# Altium integrated library Linear Technology Power Management uModule Regulators.IntLib: 166 symbols (part 31 of 67)
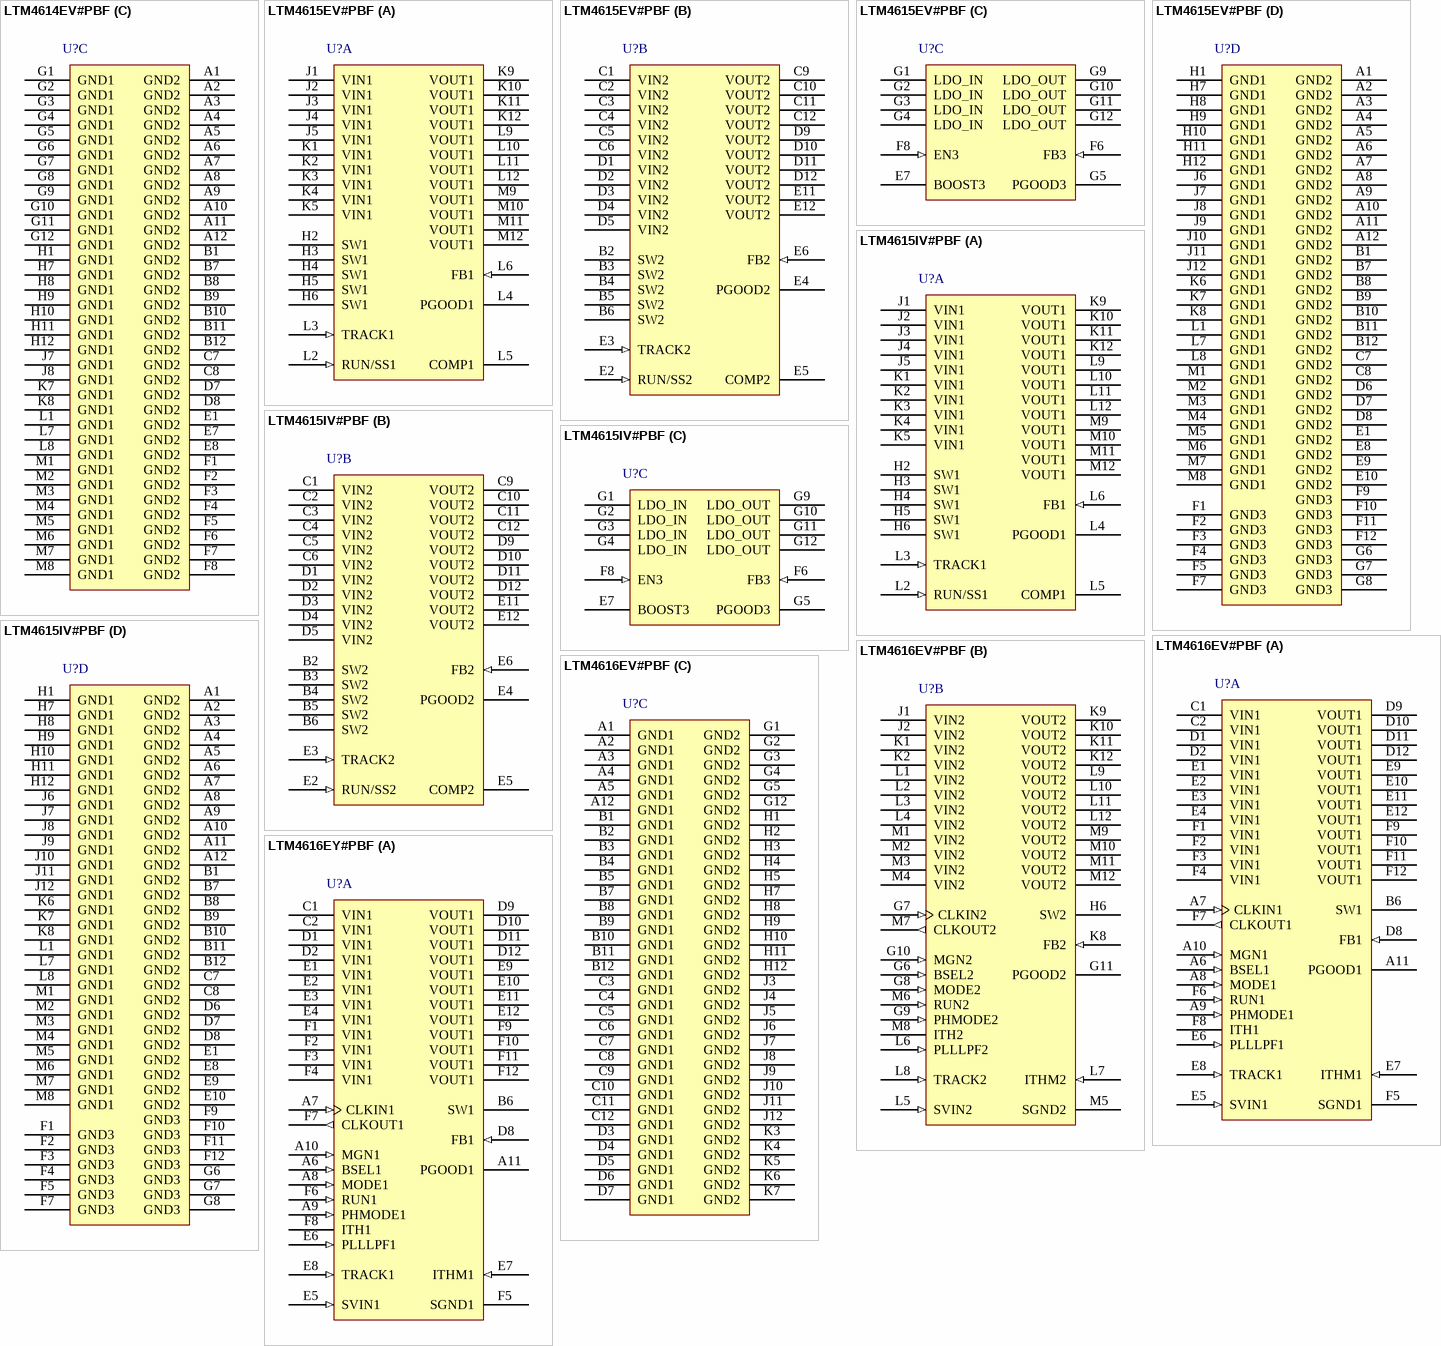
[diagram p57: symbols LTM4614EV#PBF to LTM4616EY#PBF]

## LTM4615IV#PBF
designator U?
Triple Output, Low Voltage DC/DC uModule Regulator, 144-pin LGA, -40 to 125 degC, Pb-Free, Tray; Manufacturer: Linear Technology; PartNumber: LTM4615IV#PBF; Extended Temp: E,I; Frequency(kHz): 1250; Ishutdown(uA): 7; Isupply(mA): 1.48; Number of Outputs: 3; Output Current(A): 4; Switch Current(A): 6; Synchronous: yes; Topology: Buck, LDO; Vin Max(V): 5.5; Vin Min(V): 2.375; Vout Max(V): 5; Vout Min(V): 0.8; DatasheetVersion: Rev. A; PackageVersion: Rev. C, 01/2013; PackageReference: LGA-144; PackageDescription: 144-Pin LGA, Body 15 x 15 mm, Pitch 1.27 mm; Supplier 1: Digi-Key; Supplier Part Number 1: LTM4615IV#PBF-ND; Supplier 2: Farnell; Supplier Part Number 2: 1865712; Supplier 3: Newark; Supplier Part Number 3: 68R7657; Packing: Tray; RoHS: TRUE; Tracking: yes; Mounting Technology: Surface Mount; Code_JEDEC: MS-028; ComponentLink1Description: Manufacturer URL; ComponentLink1URL: http://www.linear.com/; ComponentLink2Description: Datasheet; ComponentLink2URL: http://cds.linear.com/docs/en/datasheet/4615fa.pdf; ComponentLink3Description: Package Specification; ComponentLink3URL: http://cds.linear.com/docs/en/packaging/05081816_C_lga144.pdf
footprint LT-LGA-144-05-08-1816_V (LGA, 144-Leads, Body 15x15mm, Pitch 1.27mm)
part A pins: H2 SW1 "The switching node of the circuit is used for testing purposes. This can be connected to copper on the board for improved thermal performance. SW1 and The switching node of the circuit is used for testing purposes. This can (See Datasheet)", H3 SW1 "The switching node of the circuit is used for testing purposes. This can be connected to copper on the board for improved thermal performance. SW1 and The switching node of the circuit is used for testing purposes. This can (See Datasheet)", H4 SW1 "The switching node of the circuit is used for testing purposes. This can be connected to copper on the board for improved thermal performance. SW1 and The switching node of the circuit is used for testing purposes. This can (See Datasheet)", H5 SW1 "The switching node of the circuit is used for testing purposes. This can be connected to copper on the board for improved thermal performance. SW1 and The switching node of the circuit is used for testing purposes. This can (See Datasheet)", H6 SW1 "The switching node of the circuit is used for testing purposes. This can be connected to copper on the board for improved thermal performance. SW1 and The switching node of the circuit is used for testing purposes. This can (See Datasheet)", J1 VIN1 (power) "Power Input Pins. Apply input voltage between these pins and GND pins. Recommend placing input decoupling capacitance directly between VIN pins and GND pins.", J2 VIN1 (power) "Power Input Pins. Apply input voltage between these pins and GND pins. Recommend placing input decoupling capacitance directly between VIN pins and GND pins.", J3 VIN1 (power) "Power Input Pins. Apply input voltage between these pins and GND pins. Recommend placing input decoupling capacitance directly between VIN pins and GND pins.", J4 VIN1 (power) "Power Input Pins. Apply input voltage between these pins and GND pins. Recommend placing input decoupling capacitance directly between VIN pins and GND pins.", J5 VIN1 (power) "Power Input Pins. Apply input voltage between these pins and GND pins. Recommend placing input decoupling capacitance directly between VIN pins and GND pins.", K1 VIN1 (power) "Power Input Pins. Apply input voltage between these pins and GND pins. Recommend placing input decoupling capacitance directly between VIN pins and GND pins.", K2 VIN1 (power) "Power Input Pins. Apply input voltage between these pins and GND pins. Recommend placing input decoupling capacitance directly between VIN pins and GND pins.", K3 VIN1 (power) "Power Input Pins. Apply input voltage between these pins and GND pins. Recommend placing input decoupling capacitance directly between VIN pins and GND pins.", K4 VIN1 (power) "Power Input Pins. Apply input voltage between these pins and GND pins. Recommend placing input decoupling capacitance directly between VIN pins and GND pins.", K5 VIN1 (power) "Power Input Pins. Apply input voltage between these pins and GND pins. Recommend placing input decoupling capacitance directly between VIN pins and GND pins.", K9 VOUT1 (power) "Power Output Pins. Apply output load between these pins and GND pins. Recommend placing output decoupling capacitance directly between these pins and GND pins. Review Table 4.", K10 VOUT1 (power) "Power Output Pins. Apply output load between these pins and GND pins. Recommend placing output decoupling capacitance directly between these pins and GND pins. Review Table 4.", K11 VOUT1 (power) "Power Output Pins. Apply output load between these pins and GND pins. Recommend placing output decoupling capacitance directly between these pins and GND pins. Review Table 4.", K12 VOUT1 (power) "Power Output Pins. Apply output load between these pins and GND pins. Recommend placing output decoupling capacitance directly between these pins and GND pins. Review Table 4.", L2 RUN/SS1 (in), L3 TRACK1 (in) "Output Voltage Tracking Pins. When the module is configured as a master output, then a soft-start capacitor is placed on the RUN/SS pin to ground to control the master ramp rate, or an external ramp can be applied to the (See Datasheet)", L4 PGOOD1 (oc) "Output Voltage Power Good Indicator. Open-drain logic output that is pulled to ground when the output voltage is not within +/-7.5% of the regulation point.", L5 COMP1 "Current Control Threshold and Error Amplifier Compensation Point. The current comparator threshold increases with this control voltage. Two power modules can current share when this pin is connected in parallel with the (See Datasheet)", L6 FB1 (in) "The Negative Input of the Switching Regulators’ Error Amplifier. Internally, these pins are connected to VOUT with a 4.99k precision resistor. Different output voltages can be programmed with an additional resistor betwee(See Datasheet)", L9 VOUT1 (power) "Power Output Pins. Apply output load between these pins and GND pins. Recommend placing output decoupling capacitance directly between these pins and GND pins. Review Table 4.", L10 VOUT1 (power) "Power Output Pins. Apply output load between these pins and GND pins. Recommend placing output decoupling capacitance directly between these pins and GND pins. Review Table 4.", L11 VOUT1 (power) "Power Output Pins. Apply output load between these pins and GND pins. Recommend placing output decoupling capacitance directly between these pins and GND pins. Review Table 4.", L12 VOUT1 (power) "Power Output Pins. Apply output load between these pins and GND pins. Recommend placing output decoupling capacitance directly between these pins and GND pins. Review Table 4.", M9 VOUT1 (power) "Power Output Pins. Apply output load between these pins and GND pins. Recommend placing output decoupling capacitance directly between these pins and GND pins. Review Table 4.", M10 VOUT1 (power) "Power Output Pins. Apply output load between these pins and GND pins. Recommend placing output decoupling capacitance directly between these pins and GND pins. Review Table 4.", M11 VOUT1 (power) "Power Output Pins. Apply output load between these pins and GND pins. Recommend placing output decoupling capacitance directly between these pins and GND pins. Review Table 4.", M12 VOUT1 (power) "Power Output Pins. Apply output load between these pins and GND pins. Recommend placing output decoupling capacitance directly between these pins and GND pins. Review Table 4."
part B pins: B2 SW2 "The switching node of the circuit is used for testing purposes. This can be connected to copper on the board for improved thermal performance. SW1 and SW2 must be floating on separate copper planes.", B3 SW2 "The switching node of the circuit is used for testing purposes. This can be connected to copper on the board for improved thermal performance. SW1 and SW2 must be floating on separate copper planes.", B4 SW2 "The switching node of the circuit is used for testing purposes. This can be connected to copper on the board for improved thermal performance. SW1 and SW2 must be floating on separate copper planes.", B5 SW2 "The switching node of the circuit is used for testing purposes. This can be connected to copper on the board for improved thermal performance. SW1 and SW2 must be floating on separate copper planes.", B6 SW2 "The switching node of the circuit is used for testing purposes. This can be connected to copper on the board for improved thermal performance. SW1 and SW2 must be floating on separate copper planes.", C1 VIN2 (power) "Power Input Pins. Apply input voltage between these pins and GND pins. Recommend placing input decoupling capacitance directly between VIN pins and GND pins.", C2 VIN2 (power) "Power Input Pins. Apply input voltage between these pins and GND pins. Recommend placing input decoupling capacitance directly between VIN pins and GND pins.", C3 VIN2 (power) "Power Input Pins. Apply input voltage between these pins and GND pins. Recommend placing input decoupling capacitance directly between VIN pins and GND pins.", C4 VIN2 (power) "Power Input Pins. Apply input voltage between these pins and GND pins. Recommend placing input decoupling capacitance directly between VIN pins and GND pins.", C5 VIN2 (power) "Power Input Pins. Apply input voltage between these pins and GND pins. Recommend placing input decoupling capacitance directly between VIN pins and GND pins.", C6 VIN2 (power) "Power Input Pins. Apply input voltage between these pins and GND pins. Recommend placing input decoupling capacitance directly between VIN pins and GND pins.", C9 VOUT2 (power) "Power Output Pins. Apply output load between these pins and GND pins. Recommend placing output decoupling capacitance directly between these pins and GND pins. Review Table 4.", C10 VOUT2 (power) "Power Output Pins. Apply output load between these pins and GND pins. Recommend placing output decoupling capacitance directly between these pins and GND pins. Review Table 4.", C11 VOUT2 (power) "Power Output Pins. Apply output load between these pins and GND pins. Recommend placing output decoupling capacitance directly between these pins and GND pins. Review Table 4.", C12 VOUT2 (power) "Power Output Pins. Apply output load between these pins and GND pins. Recommend placing output decoupling capacitance directly between these pins and GND pins. Review Table 4.", D1 VIN2 (power) "Power Input Pins. Apply input voltage between these pins and GND pins. Recommend placing input decoupling capacitance directly between VIN pins and GND pins.", D2 VIN2 (power) "Power Input Pins. Apply input voltage between these pins and GND pins. Recommend placing input decoupling capacitance directly between VIN pins and GND pins.", D3 VIN2 (power) "Power Input Pins. Apply input voltage between these pins and GND pins. Recommend placing input decoupling capacitance directly between VIN pins and GND pins.", D4 VIN2 (power) "Power Input Pins. Apply input voltage between these pins and GND pins. Recommend placing input decoupling capacitance directly between VIN pins and GND pins.", D5 VIN2 (power) "Power Input Pins. Apply input voltage between these pins and GND pins. Recommend placing input decoupling capacitance directly between VIN pins and GND pins.", D9 VOUT2 (power) "Power Output Pins. Apply output load between these pins and GND pins. Recommend placing output decoupling capacitance directly between these pins and GND pins. Review Table 4.", D10 VOUT2 (power) "Power Output Pins. Apply output load between these pins and GND pins. Recommend placing output decoupling capacitance directly between these pins and GND pins. Review Table 4.", D11 VOUT2 (power) "Power Output Pins. Apply output load between these pins and GND pins. Recommend placing output decoupling capacitance directly between these pins and GND pins. Review Table 4.", D12 VOUT2 (power) "Power Output Pins. Apply output load between these pins and GND pins. Recommend placing output decoupling capacitance directly between these pins and GND pins. Review Table 4.", E2 RUN/SS2 (in), E3 TRACK2 (in) "Output Voltage Tracking Pins. When the module is configured as a master output, then a soft-start capacitor is placed on the RUN/SS pin to ground to control the master ramp rate, or an external ramp can be applied to the (See Datasheet)", E4 PGOOD2 (oc) "Output Voltage Power Good Indicator. Open-drain logic output that is pulled to ground when the output voltage is not within +/-7.5% of the regulation point.", E5 COMP2 "Current Control Threshold and Error Amplifier Compensation Point. The current comparator threshold increases with this control voltage. Two power modules can current share when this pin is connected in parallel with the (See Datasheet)", E6 FB2 (in) "The Negative Input of the Switching Regulators’ Error Amplifier. Internally, these pins are connected to VOUT with a 4.99k precision resistor. Different output voltages can be programmed with an additional resistor betwee(See Datasheet)", E11 VOUT2 (power) "Power Output Pins. Apply output load between these pins and GND pins. Recommend placing output decoupling capacitance directly between these pins and GND pins. Review Table 4.", E12 VOUT2 (power) "Power Output Pins. Apply output load between these pins and GND pins. Recommend placing output decoupling capacitance directly between these pins and GND pins. Review Table 4."
part C pins: E7 BOOST3 (power) "Boost Supply for Driving the Internal VLDO NMOS Into Full Enhancement. The pin is use for testing the internal boost converter. The output is typically 5V.", F6 FB3 (in) "The Negative Input of the LDO Error Amplifier. Internally the pin is connected to LDO_OUT with a 4.99k resistor. Different output voltages can be programmed with an additional resistor between the FB3 and GND pins. See the (See Datasheet)", F8 EN3 (in) "VLDO Enable Pin.", G1 LDO_IN (power) "VLDO Input Power Pins. Place input capacitor close to these pins.", G2 LDO_IN (power) "VLDO Input Power Pins. Place input capacitor close to these pins.", G3 LDO_IN (power) "VLDO Input Power Pins. Place input capacitor close to these pins.", G4 LDO_IN (power) "VLDO Input Power Pins. Place input capacitor close to these pins.", G5 PGOOD3 (hiz) "VLDO Power Good Pin.", G9 LDO_OUT (power) "VLDO Output Power Pins. Place output capacitor close to these pins. Minimum 1mA load is necessary for proper output voltage accuracy.", G10 LDO_OUT (power) "VLDO Output Power Pins. Place output capacitor close to these pins. Minimum 1mA load is necessary for proper output voltage accuracy.", G11 LDO_OUT (power) "VLDO Output Power Pins. Place output capacitor close to these pins. Minimum 1mA load is necessary for proper output voltage accuracy.", G12 LDO_OUT (power) "VLDO Output Power Pins. Place output capacitor close to these pins. Minimum 1mA load is necessary for proper output voltage accuracy."
part D pins: A1 GND2 (power) "Power Ground Pins for Both Input and Output Returns.", A2 GND2 (power) "Power Ground Pins for Both Input and Output Returns.", A3 GND2 (power) "Power Ground Pins for Both Input and Output Returns.", A4 GND2 (power) "Power Ground Pins for Both Input and Output Returns.", A5 GND2 (power) "Power Ground Pins for Both Input and Output Returns.", A6 GND2 (power) "Power Ground Pins for Both Input and Output Returns.", A7 GND2 (power) "Power Ground Pins for Both Input and Output Returns.", A8 GND2 (power) "Power Ground Pins for Both Input and Output Returns.", A9 GND2 (power) "Power Ground Pins for Both Input and Output Returns.", A10 GND2 (power) "Power Ground Pins for Both Input and Output Returns.", A11 GND2 (power) "Power Ground Pins for Both Input and Output Returns.", A12 GND2 (power) "Power Ground Pins for Both Input and Output Returns.", B1 GND2 (power) "Power Ground Pins for Both Input and Output Returns.", B7 GND2 (power) "Power Ground Pins for Both Input and Output Returns.", B8 GND2 (power) "Power Ground Pins for Both Input and Output Returns.", B9 GND2 (power) "Power Ground Pins for Both Input and Output Returns.", B10 GND2 (power) "Power Ground Pins for Both Input and Output Returns.", B11 GND2 (power) "Power Ground Pins for Both Input and Output Returns.", B12 GND2 (power) "Power Ground Pins for Both Input and Output Returns.", C7 GND2 (power) "Power Ground Pins for Both Input and Output Returns.", C8 GND2 (power) "Power Ground Pins for Both Input and Output Returns.", D6 GND2 (power) "Power Ground Pins for Both Input and Output Returns.", D7 GND2 (power) "Power Ground Pins for Both Input and Output Returns.", D8 GND2 (power) "Power Ground Pins for Both Input and Output Returns.", E1 GND2 (power) "Power Ground Pins for Both Input and Output Returns.", E8 GND2 (power) "Power Ground Pins for Both Input and Output Returns.", E9 GND2 (power) "Power Ground Pins for Both Input and Output Returns.", E10 GND2 (power) "Power Ground Pins for Both Input and Output Returns.", F1 GND3 (power) "The power ground pins for both input and output returns for the internal VLDO.", F2 GND3 (power) "The power ground pins for both input and output returns for the internal VLDO.", F3 GND3 (power) "The power ground pins for both input and output returns for the internal VLDO.", F4 GND3 (power) "The power ground pins for both input and output returns for the internal VLDO.", F5 GND3 (power) "The power ground pins for both input and output returns for the internal VLDO.", F7 GND3 (power) "The power ground pins for both input and output returns for the internal VLDO.", F9 GND3 (power) "The power ground pins for both input and output returns for the internal VLDO.", F10 GND3 (power) "The power ground pins for both input and output returns for the internal VLDO.", F11 GND3 (power) "The power ground pins for both input and output returns for the internal VLDO.", F12 GND3 (power) "The power ground pins for both input and output returns for the internal VLDO.", G6 GND3 (power) "The power ground pins for both input and output returns for the internal VLDO.", G7 GND3 (power) "The power ground pins for both input and output returns for the internal VLDO.", G8 GND3 (power) "The power ground pins for both input and output returns for the internal VLDO.", H1 GND1 (power) "Power Ground Pins for Both Input and Output Returns.", H7 GND1 (power) "Power Ground Pins for Both Input and Output Returns.", H8 GND1 (power) "Power Ground Pins for Both Input and Output Returns.", H9 GND1 (power) "Power Ground Pins for Both Input and Output Returns.", H10 GND1 (power) "Power Ground Pins for Both Input and Output Returns.", H11 GND1 (power) "Power Ground Pins for Both Input and Output Returns.", H12 GND1 (power) "Power Ground Pins for Both Input and Output Returns.", J6 GND1 (power) "Power Ground Pins for Both Input and Output Returns.", J7 GND1 (power) "Power Ground Pins for Both Input and Output Returns.", J8 GND1 (power) "Power Ground Pins for Both Input and Output Returns.", J9 GND1 (power) "Power Ground Pins for Both Input and Output Returns.", J10 GND1 (power) "Power Ground Pins for Both Input and Output Returns.", J11 GND1 (power) "Power Ground Pins for Both Input and Output Returns.", J12 GND1 (power) "Power Ground Pins for Both Input and Output Returns.", K6 GND1 (power) "Power Ground Pins for Both Input and Output Returns.", K7 GND1 (power) "Power Ground Pins for Both Input and Output Returns.", K8 GND1 (power) "Power Ground Pins for Both Input and Output Returns.", L1 GND1 (power) "Power Ground Pins for Both Input and Output Returns.", L7 GND1 (power) "Power Ground Pins for Both Input and Output Returns.", L8 GND1 (power) "Power Ground Pins for Both Input and Output Returns.", M1 GND1 (power) "Power Ground Pins for Both Input and Output Returns.", M2 GND1 (power) "Power Ground Pins for Both Input and Output Returns.", M3 GND1 (power) "Power Ground Pins for Both Input and Output Returns.", M4 GND1 (power) "Power Ground Pins for Both Input and Output Returns.", M5 GND1 (power) "Power Ground Pins for Both Input and Output Returns.", M6 GND1 (power) "Power Ground Pins for Both Input and Output Returns.", M7 GND1 (power) "Power Ground Pins for Both Input and Output Returns.", M8 GND1 (power) "Power Ground Pins for Both Input and Output Returns."

## LTM4616EV#PBF
designator U?
Dual 8 A per Channel Low VIN DC/DC uModule Regulator, 144-pin LGA, -40 to 125 degC, Pb-Free, Tray; Manufacturer: Linear Technology; PartNumber: LTM4616EV#PBF; Extended Temp: E, I, MP; Frequency Sync Range: 750kHz - 2.25MHz; Ishutdown(uA): 1; Isupply(mA): 0.4; Number of Outputs: 1 or 2; Output Current(A): 8 or 16; Switch Current(A): 13 or 26; Synchronous: yes; Topology: Buck; Vin Max(V): 5.5; Vin Min(V): 2.7; Vout Max(V): 5; Vout Min(V): 0.6; DatasheetVersion: Rev. E; PackageVersion: Rev. C, 01/2013; PackageReference: LGA-144; PackageDescription: 144-Pin LGA, Body 15 x 15 mm, Pitch 1.27 mm; Supplier 1: Digi-Key; Supplier Part Number 1: LTM4616EV#PBF-ND; Supplier 2: Farnell; Supplier Part Number 2: 1799821; Supplier 3: Newark; Supplier Part Number 3: 01N6434; Packing: Tray; RoHS: TRUE; Tracking: yes; Mounting Technology: Surface Mount; Code_JEDEC: MS-028; ComponentLink1Description: Manufacturer URL; ComponentLink1URL: http://www.linear.com/; ComponentLink2Description: Datasheet; ComponentLink2URL: http://cds.linear.com/docs/en/datasheet/4616fe.pdf; ComponentLink3Description: Package Specification; ComponentLink3URL: http://cds.linear.com/docs/en/packaging/05081816_C_lga144.pdf
footprint LT-LGA-144-05-08-1816_V (LGA, 144-Leads, Body 15x15mm, Pitch 1.27mm)
part A pins: A6 BSEL1 (in) "Margining Bit Select Pin for Each Channel. Tying BSEL low selects +/-5% margin value, tying it high selects 10% margin value. Floating it or tying it to VIN/2 selects 15% margin value.", A7 CLKIN1 (in) "External Synchronization Input to Phase Detector for Each Channel. This pin is internally terminated to SGND with a 50k resistor. The phase-locked loop will force the internal top power PMOS turn on to be synchronized with (See Datasheet)", A8 MODE1 (in) "Mode Select Input for Each Channel. Tying this pin high enables Burst Mode operation. Tying this pin low enables forced continuous operation. Floating this pin or tying it to VIN/2 enables pulse-skipping operation.", A9 PHMODE1 (in) "Phase Selector Input for Each Channel. This pin determines the phase relationship between the internal oscillator and CLKOUT. Tie it high for 2-phase operation, tie it low for 3-phase operation, and float or tie it to VIN/2 (See Datasheet)", A10 MGN1 (in) "Voltage Margining Pin for Each Channel. Increases or decreases the output voltage by the amount specified by the BSEL pin. To disable margining, tie the MGN pin to a voltage divider with 50k resistors from VIN to ground (see (See Datasheet)", A11 PGOOD1 (oc) "Output Voltage Power Good Indicator for Each Channel. Open-drain logic output that is pulled to ground when the output voltage is not within +/-10% of the regulation point. Power good is disabled during margining.", B6 SW1 "Switching Node of Each Channel That is Used for Testing Purposes. This can be connected to an electronically open circuit copper pad on the board for improved thermal performance.", C1 VIN1 (power) "Power Input Pins. Apply input voltage between these pins and GND pins. Recommend placing input decoupling capacitance directly between VIN pins and GND pins.", C2 VIN1 (power) "Power Input Pins. Apply input voltage between these pins and GND pins. Recommend placing input decoupling capacitance directly between VIN pins and GND pins.", D1 VIN1 (power) "Power Input Pins. Apply input voltage between these pins and GND pins. Recommend placing input decoupling capacitance directly between VIN pins and GND pins.", D2 VIN1 (power) "Power Input Pins. Apply input voltage between these pins and GND pins. Recommend placing input decoupling capacitance directly between VIN pins and GND pins.", D8 FB1 (in) "The Negative Input of the Error Amplifier for Each Channel. Internally, this pin is connected to VOUT with a 10k precision resistor. Different output voltages can be programmed with an additional resistor between FB and GND (See Datasheet)", D9 VOUT1 (power) "Power Output Pins. Apply output load between these pins and GND pins. Recommend placing output decoupling capacitance directly between these pins and GND pins. See Table 1.", D10 VOUT1 (power) "Power Output Pins. Apply output load between these pins and GND pins. Recommend placing output decoupling capacitance directly between these pins and GND pins. See Table 1.", D11 VOUT1 (power) "Power Output Pins. Apply output load between these pins and GND pins. Recommend placing output decoupling capacitance directly between these pins and GND pins. See Table 1.", D12 VOUT1 (power) "Power Output Pins. Apply output load between these pins and GND pins. Recommend placing output decoupling capacitance directly between these pins and GND pins. See Table 1.", E1 VIN1 (power) "Power Input Pins. Apply input voltage between these pins and GND pins. Recommend placing input decoupling capacitance directly between VIN pins and GND pins.", E2 VIN1 (power) "Power Input Pins. Apply input voltage between these pins and GND pins. Recommend placing input decoupling capacitance directly between VIN pins and GND pins.", E3 VIN1 (power) "Power Input Pins. Apply input voltage between these pins and GND pins. Recommend placing input decoupling capacitance directly between VIN pins and GND pins.", E4 VIN1 (power) "Power Input Pins. Apply input voltage between these pins and GND pins. Recommend placing input decoupling capacitance directly between VIN pins and GND pins.", E5 SVIN1 (in) "Signal Input Voltage for Each Channel. This pin is internally connected to VIN through a lowpass filter.", E6 PLLLPF1 (in) "Phase-Locked Loop Lowpass Filter for Each Channel. An internal lowpass filter is tied to this pin. In spread spectrum mode, placing a capacitor here to SGND controls the slew rate from one frequency to the next. (See Datasheet)", E7 ITHM1 (in) "Negative Input to the Internal ITH Differential Amplifier for Each Channel. Tie this pin to SGND for single phase operation on each channel. For PolyPhase operation, tie the master’s ITHM to SGND while connecting all o(See Datasheet)", E8 TRACK1 (in) "Output Voltage Tracking Pin for Each Channel. Voltage tracking is enabled when the TRACK voltage is below 0.57V. If tracking is not desired, then connect the TRACK pin to SVIN. If TRACK is not tied to SVIN, then the TRACK (See Datasheet)", E9 VOUT1 (power) "Power Output Pins. Apply output load between these pins and GND pins. Recommend placing output decoupling capacitance directly between these pins and GND pins. See Table 1.", E10 VOUT1 (power) "Power Output Pins. Apply output load between these pins and GND pins. Recommend placing output decoupling capacitance directly between these pins and GND pins. See Table 1.", E11 VOUT1 (power) "Power Output Pins. Apply output load between these pins and GND pins. Recommend placing output decoupling capacitance directly between these pins and GND pins. See Table 1.", E12 VOUT1 (power) "Power Output Pins. Apply output load between these pins and GND pins. Recommend placing output decoupling capacitance directly between these pins and GND pins. See Table 1.", F1 VIN1 (power) "Power Input Pins. Apply input voltage between these pins and GND pins. Recommend placing input decoupling capacitance directly between VIN pins and GND pins.", F2 VIN1 (power) "Power Input Pins. Apply input voltage between these pins and GND pins. Recommend placing input decoupling capacitance directly between VIN pins and GND pins.", F3 VIN1 (power) "Power Input Pins. Apply input voltage between these pins and GND pins. Recommend placing input decoupling capacitance directly between VIN pins and GND pins.", F4 VIN1 (power) "Power Input Pins. Apply input voltage between these pins and GND pins. Recommend placing input decoupling capacitance directly between VIN pins and GND pins.", F5 SGND1 (power) "Signal Ground Pin for Each Channel. Return ground path for all analog and low power circuitry. Tie a single connection to the output capacitor GND in the application. See layout guidelines in Figure 17.", F6 RUN1 (in) "Run Control Pin. A voltage above 1.7V will turn on the module.", F7 CLKOUT1 (out) "Output Clock Signal for PolyPhase Operation. The phase of CLKOUT is determined by the state of the PHMODE pin.", F8 ITH1 "Current Control Threshold and Error Amplifier Compensation Point for Each Channel. The current comparator threshold increases with this control voltage. Tie together in parallel operation.", F9 VOUT1 (power) "Power Output Pins. Apply output load between these pins and GND pins. Recommend placing output decoupling capacitance directly between these pins and GND pins. See Table 1.", F10 VOUT1 (power) "Power Output Pins. Apply output load between these pins and GND pins. Recommend placing output decoupling capacitance directly between these pins and GND pins. See Table 1.", F11 VOUT1 (power) "Power Output Pins. Apply output load between these pins and GND pins. Recommend placing output decoupling capacitance directly between these pins and GND pins. See Table 1.", F12 VOUT1 (power) "Power Output Pins. Apply output load between these pins and GND pins. Recommend placing output decoupling capacitance directly between these pins and GND pins. See Table 1."
part B pins: G6 BSEL2 (in) "Margining Bit Select Pin for Each Channel. Tying BSEL low selects +/-5% margin value, tying it high selects 10% margin value. Floating it or tying it to VIN/2 selects 15% margin value.", G7 CLKIN2 (in) "External Synchronization Input to Phase Detector for Each Channel. This pin is internally terminated to SGND with a 50k resistor. The phase-locked loop will force the internal top power PMOS turn on to be synchronized with (See Datasheet)", G8 MODE2 (in) "Mode Select Input for Each Channel. Tying this pin high enables Burst Mode operation. Tying this pin low enables forced continuous operation. Floating this pin or tying it to VIN/2 enables pulse-skipping operation.", G9 PHMODE2 (in) "Phase Selector Input for Each Channel. This pin determines the phase relationship between the internal oscillator and CLKOUT. Tie it high for 2-phase operation, tie it low for 3-phase operation, and float or tie it to VIN/2 (See Datasheet)", G10 MGN2 (in) "Voltage Margining Pin for Each Channel. Increases or decreases the output voltage by the amount specified by the BSEL pin. To disable margining, tie the MGN pin to a voltage divider with 50k resistors from VIN to ground (see (See Datasheet)", G11 PGOOD2 (oc) "Output Voltage Power Good Indicator for Each Channel. Open-drain logic output that is pulled to ground when the output voltage is not within +/-10% of the regulation point. Power good is disabled during margining.", H6 SW2 "Switching Node of Each Channel That is Used for Testing Purposes. This can be connected to an electronically open circuit copper pad on the board for improved thermal performance.", J1 VIN2 (power) "Power Input Pins. Apply input voltage between these pins and GND pins. Recommend placing input decoupling capacitance directly between VIN pins and GND pins.", J2 VIN2 (power) "Power Input Pins. Apply input voltage between these pins and GND pins. Recommend placing input decoupling capacitance directly between VIN pins and GND pins.", K1 VIN2 (power) "Power Input Pins. Apply input voltage between these pins and GND pins. Recommend placing input decoupling capacitance directly between VIN pins and GND pins.", K2 VIN2 (power) "Power Input Pins. Apply input voltage between these pins and GND pins. Recommend placing input decoupling capacitance directly between VIN pins and GND pins.", K8 FB2 (in) "The Negative Input of the Error Amplifier for Each Channel. Internally, this pin is connected to VOUT with a 10k precision resistor. Different output voltages can be programmed with an additional resistor between FB and GND (See Datasheet)", K9 VOUT2 (power) "Power Output Pins. Apply output load between these pins and GND pins. Recommend placing output decoupling capacitance directly between these pins and GND pins. See Table 1.", K10 VOUT2 (power) "Power Output Pins. Apply output load between these pins and GND pins. Recommend placing output decoupling capacitance directly between these pins and GND pins. See Table 1.", K11 VOUT2 (power) "Power Output Pins. Apply output load between these pins and GND pins. Recommend placing output decoupling capacitance directly between these pins and GND pins. See Table 1.", K12 VOUT2 (power) "Power Output Pins. Apply output load between these pins and GND pins. Recommend placing output decoupling capacitance directly between these pins and GND pins. See Table 1.", L1 VIN2 (power) "Power Input Pins. Apply input voltage between these pins and GND pins. Recommend placing input decoupling capacitance directly between VIN pins and GND pins.", L2 VIN2 (power) "Power Input Pins. Apply input voltage between these pins and GND pins. Recommend placing input decoupling capacitance directly between VIN pins and GND pins.", L3 VIN2 (power) "Power Input Pins. Apply input voltage between these pins and GND pins. Recommend placing input decoupling capacitance directly between VIN pins and GND pins.", L4 VIN2 (power) "Power Input Pins. Apply input voltage between these pins and GND pins. Recommend placing input decoupling capacitance directly between VIN pins and GND pins.", L5 SVIN2 (in) "Signal Input Voltage for Each Channel. This pin is internally connected to VIN through a lowpass filter.", L6 PLLLPF2 (in) "Phase-Locked Loop Lowpass Filter for Each Channel. An internal lowpass filter is tied to this pin. In spread spectrum mode, placing a capacitor here to SGND controls the slew rate from one frequency to the next. (See Datasheet)", L7 ITHM2 (in) "Negative Input to the Internal ITH Differential Amplifier for Each Channel. Tie this pin to SGND for single phase operation on each channel. For PolyPhase operation, tie the master’s ITHM to SGND while connecting all o(See Datasheet)", L8 TRACK2 (in) "Output Voltage Tracking Pin for Each Channel. Voltage tracking is enabled when the TRACK voltage is below 0.57V. If tracking is not desired, then connect the TRACK pin to SVIN. If TRACK is not tied to SVIN, then the TRACK (See Datasheet)", L9 VOUT2 (power) "Power Output Pins. Apply output load between these pins and GND pins. Recommend placing output decoupling capacitance directly between these pins and GND pins. See Table 1.", L10 VOUT2 (power) "Power Output Pins. Apply output load between these pins and GND pins. Recommend placing output decoupling capacitance directly between these pins and GND pins. See Table 1.", L11 VOUT2 (power) "Power Output Pins. Apply output load between these pins and GND pins. Recommend placing output decoupling capacitance directly between these pins and GND pins. See Table 1.", L12 VOUT2 (power) "Power Output Pins. Apply output load between these pins and GND pins. Recommend placing output decoupling capacitance directly between these pins and GND pins. See Table 1.", M1 VIN2 (power) "Power Input Pins. Apply input voltage between these pins and GND pins. Recommend placing input decoupling capacitance directly between VIN pins and GND pins.", M2 VIN2 (power) "Power Input Pins. Apply input voltage between these pins and GND pins. Recommend placing input decoupling capacitance directly between VIN pins and GND pins.", M3 VIN2 (power) "Power Input Pins. Apply input voltage between these pins and GND pins. Recommend placing input decoupling capacitance directly between VIN pins and GND pins.", M4 VIN2 (power) "Power Input Pins. Apply input voltage between these pins and GND pins. Recommend placing input decoupling capacitance directly between VIN pins and GND pins.", M5 SGND2 (power) "Signal Ground Pin for Each Channel. Return ground path for all analog and low power circuitry. Tie a single connection to the output capacitor GND in the application. See layout guidelines in Figure 17.", M6 RUN2 (in) "Run Control Pin. A voltage above 1.7V will turn on the module.", M7 CLKOUT2 (out) "Output Clock Signal for PolyPhase Operation. The phase of CLKOUT is determined by the state of the PHMODE pin.", M8 ITH2 "Current Control Threshold and Error Amplifier Compensation Point for Each Channel. The current comparator threshold increases with this control voltage. Tie together in parallel operation.", M9 VOUT2 (power) "Power Output Pins. Apply output load between these pins and GND pins. Recommend placing output decoupling capacitance directly between these pins and GND pins. See Table 1.", M10 VOUT2 (power) "Power Output Pins. Apply output load between these pins and GND pins. Recommend placing output decoupling capacitance directly between these pins and GND pins. See Table 1.", M11 VOUT2 (power) "Power Output Pins. Apply output load between these pins and GND pins. Recommend placing output decoupling capacitance directly between these pins and GND pins. See Table 1.", M12 VOUT2 (power) "Power Output Pins. Apply output load between these pins and GND pins. Recommend placing output decoupling capacitance directly between these pins and GND pins. See Table 1."
part C pins: A1 GND1 (power) "Power Ground Pins for Both Input and Output Returns.", A2 GND1 (power) "Power Ground Pins for Both Input and Output Returns.", A3 GND1 (power) "Power Ground Pins for Both Input and Output Returns.", A4 GND1 (power) "Power Ground Pins for Both Input and Output Returns.", A5 GND1 (power) "Power Ground Pins for Both Input and Output Returns.", A12 GND1 (power) "Power Ground Pins for Both Input and Output Returns.", B1 GND1 (power) "Power Ground Pins for Both Input and Output Returns.", B2 GND1 (power) "Power Ground Pins for Both Input and Output Returns.", B3 GND1 (power) "Power Ground Pins for Both Input and Output Returns.", B4 GND1 (power) "Power Ground Pins for Both Input and Output Returns.", B5 GND1 (power) "Power Ground Pins for Both Input and Output Returns.", B7 GND1 (power) "Power Ground Pins for Both Input and Output Returns.", B8 GND1 (power) "Power Ground Pins for Both Input and Output Returns.", B9 GND1 (power) "Power Ground Pins for Both Input and Output Returns.", B10 GND1 (power) "Power Ground Pins for Both Input and Output Returns.", B11 GND1 (power) "Power Ground Pins for Both Input and Output Returns.", B12 GND1 (power) "Power Ground Pins for Both Input and Output Returns.", C3 GND1 (power) "Power Ground Pins for Both Input and Output Returns.", C4 GND1 (power) "Power Ground Pins for Both Input and Output Returns.", C5 GND1 (power) "Power Ground Pins for Both Input and Output Returns.", C6 GND1 (power) "Power Ground Pins for Both Input and Output Returns.", C7 GND1 (power) "Power Ground Pins for Both Input and Output Returns.", C8 GND1 (power) "Power Ground Pins for Both Input and Output Returns.", C9 GND1 (power) "Power Ground Pins for Both Input and Output Returns.", C10 GND1 (power) "Power Ground Pins for Both Input and Output Returns.", C11 GND1 (power) "Power Ground Pins for Both Input and Output Returns.", C12 GND1 (power) "Power Ground Pins for Both Input and Output Returns.", D3 GND1 (power) "Power Ground Pins for Both Input and Output Returns.", D4 GND1 (power) "Power Ground Pins for Both Input and Output Returns.", D5 GND1 (power) "Power Ground Pins for Both Input and Output Returns.", D6 GND1 (power) "Power Ground Pins for Both Input and Output Returns.", D7 GND1 (power) "Power Ground Pins for Both Input and Output Returns.", G1 GND2 (power) "Power Ground Pins for Both Input and Output Returns.", G2 GND2 (power) "Power Ground Pins for Both Input and Output Returns.", G3 GND2 (power) "Power Ground Pins for Both Input and Output Returns.", G4 GND2 (power) "Power Ground Pins for Both Input and Output Returns.", G5 GND2 (power) "Power Ground Pins for Both Input and Output Returns.", G12 GND2 (power) "Power Ground Pins for Both Input and Output Returns.", H1 GND2 (power) "Power Ground Pins for Both Input and Output Returns.", H2 GND2 (power) "Power Ground Pins for Both Input and Output Returns.", H3 GND2 (power) "Power Ground Pins for Both Input and Output Returns.", H4 GND2 (power) "Power Ground Pins for Both Input and Output Returns.", H5 GND2 (power) "Power Ground Pins for Both Input and Output Returns.", H7 GND2 (power) "Power Ground Pins for Both Input and Output Returns.", H8 GND2 (power) "Power Ground Pins for Both Input and Output Returns.", H9 GND2 (power) "Power Ground Pins for Both Input and Output Returns.", H10 GND2 (power) "Power Ground Pins for Both Input and Output Returns.", H11 GND2 (power) "Power Ground Pins for Both Input and Output Returns.", H12 GND2 (power) "Power Ground Pins for Both Input and Output Returns.", J3 GND2 (power) "Power Ground Pins for Both Input and Output Returns.", J4 GND2 (power) "Power Ground Pins for Both Input and Output Returns.", J5 GND2 (power) "Power Ground Pins for Both Input and Output Returns.", J6 GND2 (power) "Power Ground Pins for Both Input and Output Returns.", J7 GND2 (power) "Power Ground Pins for Both Input and Output Returns.", J8 GND2 (power) "Power Ground Pins for Both Input and Output Returns.", J9 GND2 (power) "Power Ground Pins for Both Input and Output Returns.", J10 GND2 (power) "Power Ground Pins for Both Input and Output Returns.", J11 GND2 (power) "Power Ground Pins for Both Input and Output Returns.", J12 GND2 (power) "Power Ground Pins for Both Input and Output Returns.", K3 GND2 (power) "Power Ground Pins for Both Input and Output Returns.", K4 GND2 (power) "Power Ground Pins for Both Input and Output Returns.", K5 GND2 (power) "Power Ground Pins for Both Input and Output Returns.", K6 GND2 (power) "Power Ground Pins for Both Input and Output Returns.", K7 GND2 (power) "Power Ground Pins for Both Input and Output Returns."

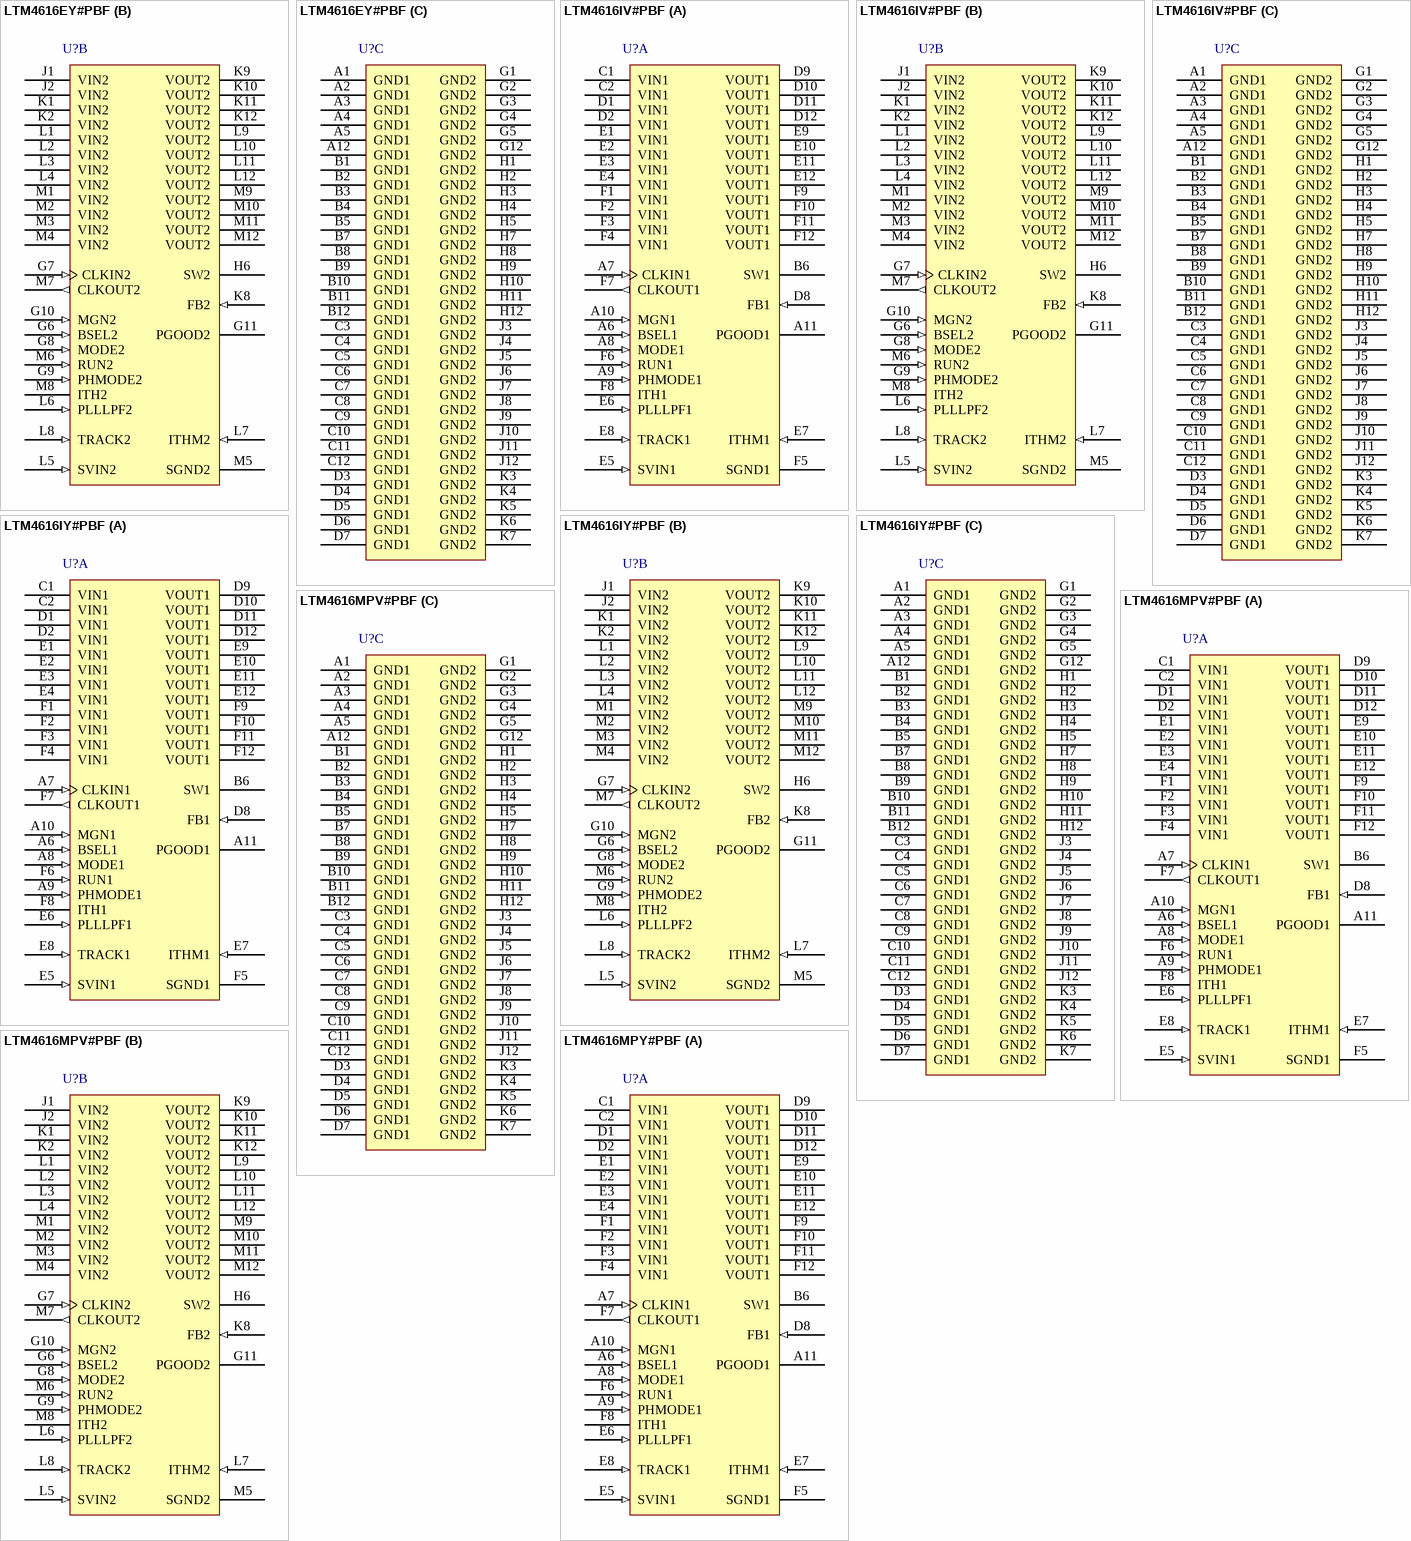
[diagram p14: symbols LTM4616EY#PBF to LTM4616MPY#PBF]